# Altium footprint library Bourns-3214-Series.PcbLib: 1 footprints
Each footprint in its own frame and in the unit in brackets; x right, y up, seen from the top. Pads: shape width x height; smd on the part's side, far side on the other; paste and mask are expansions set on the pad; w line width, h text height; cw(c..) or ccw(c..) is an arc to the next point about the centre after c.
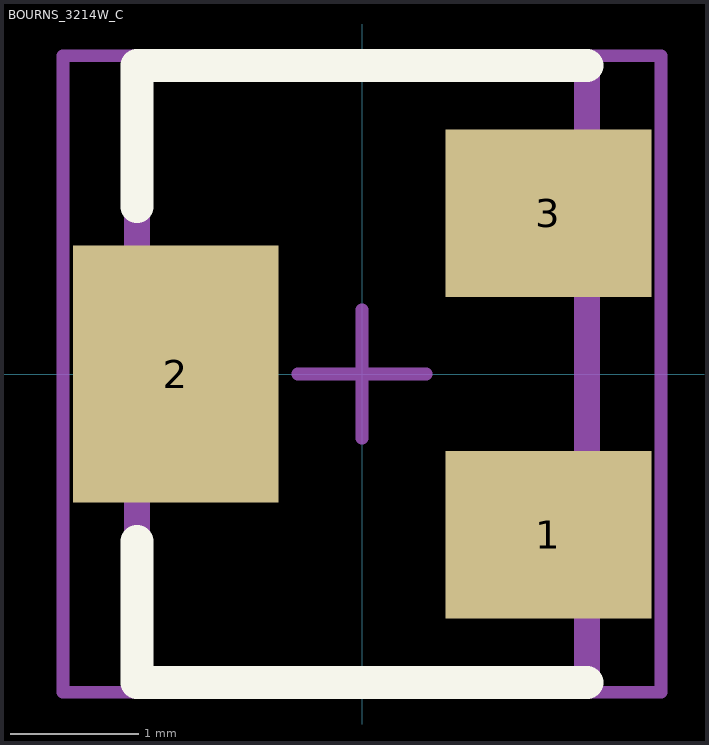
[diagram p0: the footprint, top view; thin cyan lines are the x and y axes]

## BOURNS_3214W_C [mm]
height 5.3
pads (3):
  rect 1.6x1.3 smd: 1(1.45,-1.25) 3(1.45,1.25)
  rect 1.6x2 smd: 2(-1.45,0)
Top Overlay:
  lines w0.254: -1.75,-1.3 -1.75,-2.4 1.75,-2.4 ; -1.75,1.3 -1.75,2.4 1.75,2.4
Top Assembly:
  lines w0.2: -1.75,-2.4 1.75,-2.4 1.75,2.4 -1.75,2.4 -1.75,-2.4
Top Designator:
  text ".Designator" at -1.3,-0.333 h0.8
Top Courtyard (Mech15):
  lines w0.1: -0.5,0 0.5,0 ; 0,-0.5 0,0.5 ; -2.325,-2.475 2.325,-2.475 2.325,2.475 -2.325,2.475 -2.325,-2.475
3D body "3214W.stp": height 5.29, standoff 0, extent -1.98,-2.408 1.975,2.418